# EAGLE library part 87832-20 (library miifitjr2)
Milli-Grid Header 2.00mm (.079") Pitch
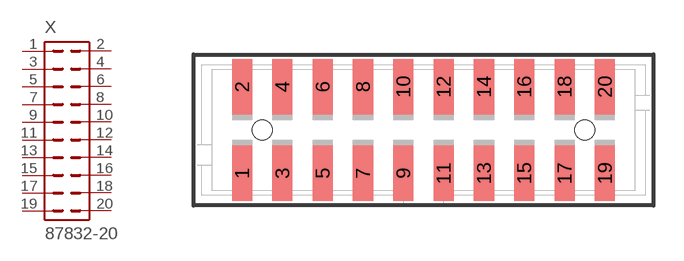
[diagram p102: symbol with the pads of 87832-20; footprint 87832-20]

Designator prefix X

## 87832-20 (MF: MOLEX; OC_FARNELL: unknown; OC_NEWARK: unknown)  [87832-20]
1  1  pas
2  2  pas
3  3  pas
4  4  pas
5  5  pas
6  6  pas
7  7  pas
8  8  pas
9  9  pas
10  10  pas
11  11  pas
12  12  pas
13  13  pas
14  14  pas
15  15  pas
16  16  pas
17  17  pas
18  18  pas
19  19  pas
20  20  pas

## Footprint 87832-20 (pad centres in mm)
Milli-Grid™ Header, Surface Mount, Vertical, Shrouded, Lead-Free, 20 Circuits, 0.76µm Gold (Au) Plating, with Locking Windows and Center Polarization Slot, PCB Locator, Tube Datasheet <http://www.molex.com/pdm_docs/sd/878322021_sd.pdf>
smd 1 x 2.75: 1 -9,-2.15; 2 -9,2.15; 3 -7,-2.15; 4 -7,2.15; 5 -5,-2.15; 6 -5,2.15; 7 -3,-2.15; 8 -3,2.15; 9 -1,-2.15; 10 -1,2.15; 11 1,-2.15; 12 1,2.15; 13 3,-2.15; 14 3,2.15; 15 5,-2.15; 16 5,2.15; 17 7,-2.15; 18 7,2.15; 19 9,-2.15; 20 9,2.15
hole 1 at -8,0
hole 1 at 8,0